# EAGLE library part PINHEAD_PINHD-2X7 (library TiLDA Mk2 Parts)
PIN HEADER
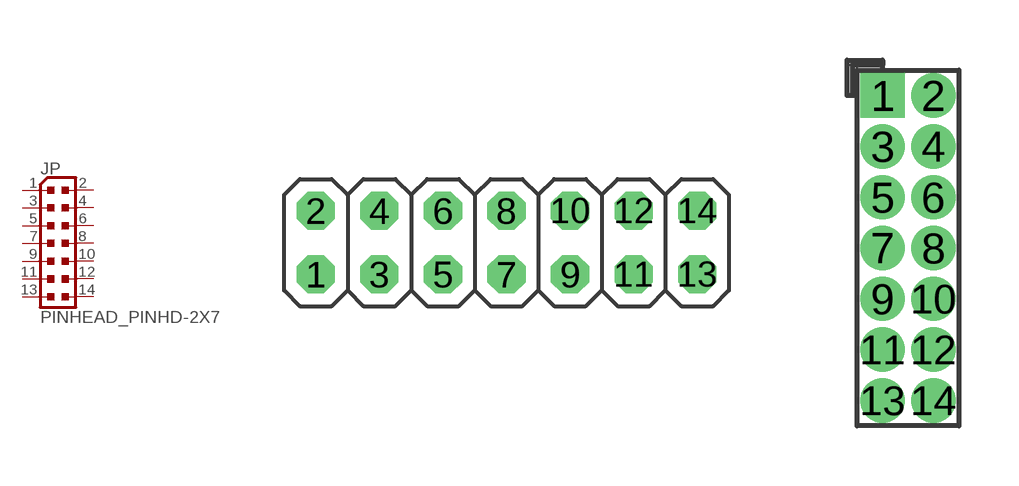
[diagram p16: symbol with the pads of PINHEAD_2X07; footprints PINHEAD_2X07, PINHEAD_2X07_127]

Designator prefix JP

## PINHEAD_PINHD-2X7  [PINHEAD_2X07]
1  1  pas
2  2  pas
3  3  pas
4  4  pas
5  5  pas
6  6  pas
7  7  pas
8  8  pas
9  9  pas
10  10  pas
11  11  pas
12  13  pas
13  12  pas
14  14  pas

## PINHEAD_PINHD-2X7PASSO127  [PINHEAD_2X07_127]
Pads as for PINHEAD_2X07

## Footprint PINHEAD_2X07 (pad centres in mm)
drill 1.016 octagon: 1 -7.62,-1.27; 2 -7.62,1.27; 3 -5.08,-1.27; 4 -5.08,1.27; 5 -2.54,-1.27; 6 -2.54,1.27; 7 0,-1.27; 8 0,1.27; 9 2.54,-1.27; 10 2.54,1.27; 11 5.08,-1.27; 12 5.08,1.27; 13 7.62,-1.27; 14 7.62,1.27

## Footprint PINHEAD_2X07_127 (pad centres in mm)
drill 0.6 pad 1.016 square: 1 -0.635,3.81
drill 0.6 pad 1.016: 2 0.635,3.81; 3 -0.635,2.54; 4 0.635,2.54; 5 -0.635,1.27; 6 0.635,1.27; 7 -0.635,0; 8 0.635,0; 9 -0.635,-1.27; 10 0.635,-1.27; 11 -0.635,-2.54; 12 0.635,-2.54; 13 -0.635,-3.81; 14 0.635,-3.81